# Altium footprint library SO.PcbLib: 21 footprints (part 2 of 2)
Each footprint in its own frame and in the unit in brackets; x right, y up, seen from the top. Pads: shape width x height; smd on the part's side, far side on the other; paste and mask are expansions set on the pad; w line width, h text height; cw(c..) or ccw(c..) is an arc to the next point about the centre after c.
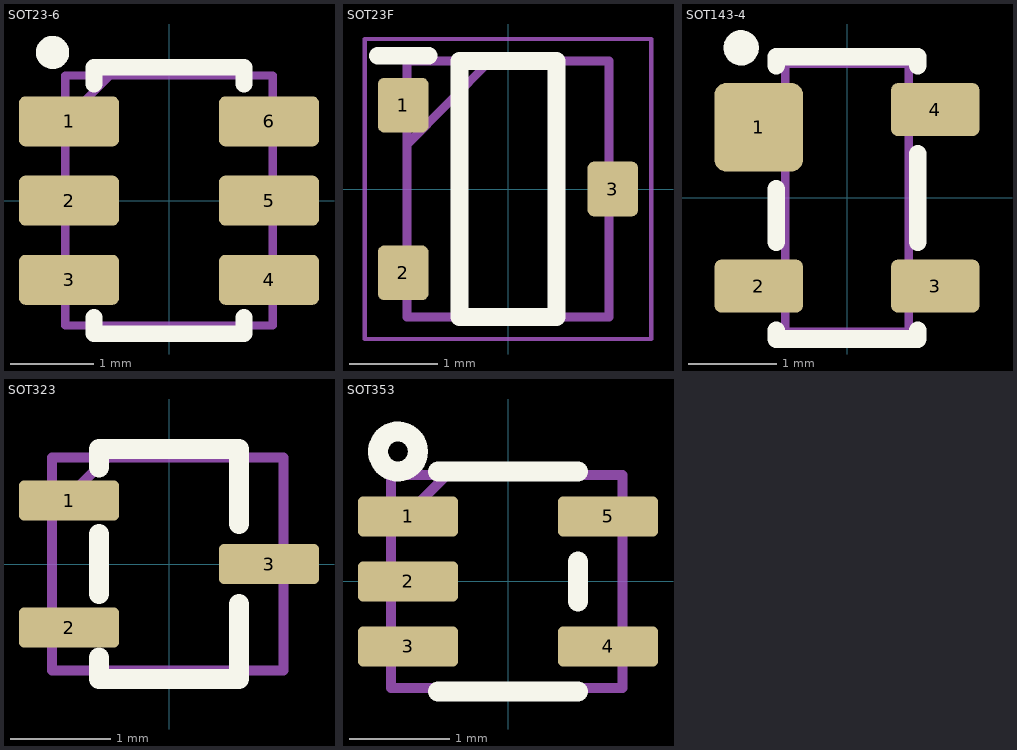
[diagram p1: the footprints below, top view; thin cyan lines are the x and y axes]

## SOT23-6 [mm]
height 7.62
pads (6):
  rrect25% 1.2x0.6 smd: 1(-1.2,0.95) 2(-1.2,0) 3(-1.2,-0.95) 4(1.2,-0.95) 5(1.2,0) 6(1.2,0.95)
Top Overlay:
  circle w0.2: c-1.397,1.778 r0.1
  lines w0.2: -0.9,-1.4 -0.9,-1.6 0.9,-1.6 0.9,-1.4 ; -0.9,1.4 -0.9,1.6 0.9,1.6 0.9,1.4
Mechanical 29:
  lines w0.1: -1.243,0.967 -1.243,1.5 -0.71,1.5 ; -0.71,1.5 -1.245,0.965 -1.245,-1.5 1.245,-1.5 1.245,1.5 -0.71,1.5
  text "'.Designator'" at -0.916,-0.119 h0.38
3D body "CircuitWorks-SOT-23-5.step": height 1.15, standoff 0.05, extent -1.25,-1.5 1.25,1.5

## SOT23F [mm]
pads (3):
  rrect25% 0.575x0.62 smd: 1(-1.188,0.95) 2(-1.188,-0.95) 3(1.188,0)
Top Overlay:
  lines w0.2: -1.475,1.51 -0.9,1.51 ; -0.55,-1.45 0.55,-1.45 0.55,1.45 -0.55,1.45 -0.55,-1.45
Mechanical 15:
  lines w0.05: -1.625,-1.7 1.625,-1.7 1.625,1.7 -1.625,1.7 -1.625,-1.7
Mechanical 29:
  lines w0.1: -1.143,0.508 -0.204,1.45 ; -1.143,-1.45 1.143,-1.45 1.143,1.45 -1.143,1.45 -1.143,-1.45
  text "'.Designator'" at -0.916,-0.119 h0.38
3D body "SSM3K339R,LF.stp": height 0.88, standoff 0, extent -1.2,-1.45 1.2,1.45

## SOT143-4 [mm] "SC-74A , SOT143, TO-253A, LAT-3/MMM168, MW-4, 1.5X3mm, 1.9mm pitch"
height 1.2
pads (4):
  rrect25% 1x1 smd: 1(-1,0.8)
  rrect25% 1x0.6 smd: 2(-1,-1) 3(1,-1) 4(1,1)
Top Overlay:
  circle w0.2: c-1.2,1.7 r0.1
  lines w0.2: -0.8,-1.5 -0.8,-1.6 0.8,-1.6 0.8,-1.5 ; -0.8,-0.5 -0.8,0.1 ; -0.8,1.5 -0.8,1.6 0.8,1.6 0.8,1.5 ; 0.8,-0.5 0.8,0.5
Mechanical 29:
  lines w0.1: -0.7,-1.52 -0.7,1.52 0.7,1.52 0.7,-1.52 -0.7,-1.52
  text "'.Designator'" at -0.916,-0.086 h0.38
3D body "User Library-sot143.step": height 1, standoff 0, extent -1.21,-1.46 1.21,1.46

## SOT323 [mm] "SOT323, SC-70/SC70-3L, DCK, MO-203, 2X1.25mm, 1.27mm pitch"
pads (3):
  rrect25% 1x0.4 smd: 1(-1,0.635) 2(-1,-0.635) 3(1,0)
Top Overlay:
  lines w0.2: -0.7,-0.935 -0.7,-1.15 0.7,-1.15 0.7,-0.4 ; -0.7,-0.3 -0.7,0.3 ; -0.7,0.965 -0.7,1.15 0.7,1.15 0.7,0.4
Mechanical 29:
  lines w0.1: -1.168,0.508 -1.168,1.067 -0.61,1.067 ; -1.168,0.508 -0.61,1.067 ; -1.168,0.508 -1.168,-1.067 1.143,-1.067 1.143,1.067 -0.61,1.067
  text "'.Designator'" at -0.916,-0.119 h0.38
3D body "User Library-sc70-3.step": height 1, standoff 0, extent -1.15,-1.05 1.15,1.05

## SOT353 [mm] "SC-88A, SC70-5, TSSOP5, SOT-353, DCK (TI), 0.65mm pitch 2X1.3mm, 0.65mm pitch"
height 1
pads (5):
  rrect25% 1x0.4 smd mask+0.075: 1(-1,0.65) 2(-1,0) 3(-1,-0.65) 4(1,-0.65) 5(1,0.65)
Top Overlay:
  circle w0.2: c-1.1,1.3 r0.2
  lines w0.2: -0.7,-1.1 0.7,-1.1 ; -0.7,1.1 0.7,1.1 ; 0.7,-0.2 0.7,0.2
Mechanical 29:
  lines w0.1: -1.168,0.508 -1.168,-1.067 1.143,-1.067 1.143,1.067 -0.61,1.067 ; -1.168,0.508 -0.61,1.067 ; -1.168,0.508 -1.168,1.067 -0.61,1.067
  text "'.Designator'" at -0.916,-0.119 h0.38
3D body "User Library-sot353.step": height 1, standoff 0, extent -1.15,-1.05 1.15,1.05